# EAGLE library part TPIC2810D (library REEF_LIB)
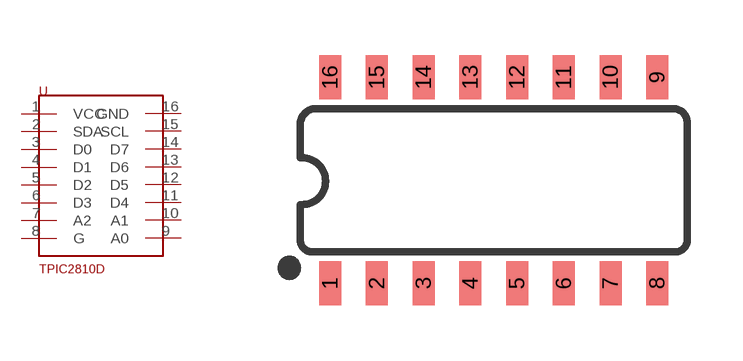
[diagram p2: symbol with the pads of SO16; footprint SO16]

Designator prefix -

## TPIC2810D  [SO16]
1  VCC
2  SDA
3  D0
4  D1
5  D2
6  D3
7  A2
8  G
9  A0
10  A1
11  D4
12  D5
13  D6
14  D7
15  SCL
16  GND

## Footprint SO16 (pad centres in mm)
SOIC-16 Specifications: Pin count: 16 Width:0.15" Example device(s): HEX_CONVERTER
smd 0.6 x 1.2: 1 -4.445,-2.8; 2 -3.175,-2.8; 3 -1.905,-2.8; 4 -0.635,-2.8; 5 0.635,-2.8; 6 1.905,-2.8; 7 3.175,-2.8; 8 4.445,-2.8; 9 4.445,2.8; 10 3.175,2.8; 11 1.905,2.8; 12 0.635,2.8; 13 -0.635,2.8; 14 -1.905,2.8; 15 -3.175,2.8; 16 -4.445,2.8